# Altium footprint library SAW_8pin_3.0x3.0_1.PcbLib: 1 footprints
Each footprint in its own frame and in the unit in brackets; x right, y up, seen from the top. Pads: shape width x height; smd on the part's side, far side on the other; paste and mask are expansions set on the pad; w line width, h text height; cw(c..) or ccw(c..) is an arc to the next point about the centre after c.
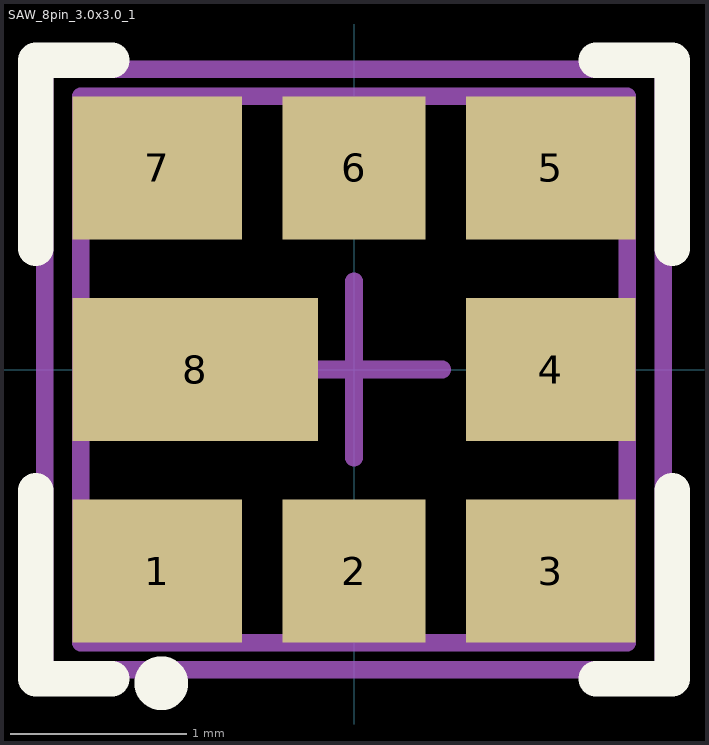
[diagram p0: the footprint, top view; thin cyan lines are the x and y axes]

## SAW_8pin_3.0x3.0_1 [mm]
pads (8):
  rect 0.96x0.81 smd: 1(-1.115,-1.143) 3(1.115,-1.143) 4(1.115,0) 5(1.115,1.143) 7(-1.115,1.143)
  rect 0.81x0.81 smd: 2(0,-1.143) 6(0,1.143)
  rect 1.39x0.81 smd: 8(-0.9,0)
Top Overlay:
  circle w0.254: c-1.092,-1.778 r0.025
  lines w0.2: -1.803,-0.686 -1.803,-1.753 -1.372,-1.753 ; -1.803,0.686 -1.803,1.753 -1.372,1.753 ; 1.372,-1.753 1.803,-1.753 1.803,-0.686 ; 1.372,1.753 1.803,1.753 1.803,0.686
Mechanical 13:
  lines w0.1: -1.549,-1.549 -1.549,1.549 1.549,1.549 1.549,-1.549 -1.549,-1.549
Mechanical 15:
  lines w0.1: -0.5,0 0.5,0 ; 0,-0.5 0,0.5 ; -1.753,-1.702 -1.753,1.702 1.753,1.702 1.753,-1.702 -1.753,-1.702
Mechanical 17:
  text "'.Designator'" at -1.524,-0.127 h0.51
Mechanical 19:
  text "'.Comment'" at -1.524,-0.127 h0.51
3D body "User Library-TA0676A SAW Filter 1592_5MHz SMD.step": height 1.4, standoff 0, extent -1.5,-1.5 1.5,1.5